# EAGLE library part MICREL (library kennethlimcp)
Micrel Fixed and Adjustable Current Limiting Power Distribution Switches
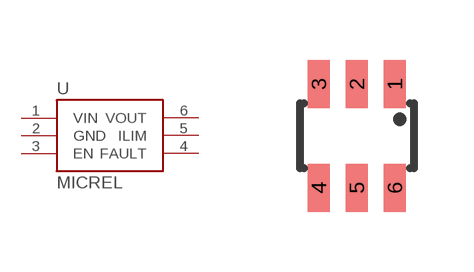
[diagram p1: symbol with the pads of SOT23-6; footprint SOT23-6]

Designator prefix -

## MICRELSOT-CP  [SOT23-6]
1  VIN
2  GND
3  EN
4  FAULT
5  ILIM
6  VOUT

## Footprint SOT23-6 (pad centres in mm)
smd 0.55 x 1.2: 1 0.95,1.3; 2 0,1.3; 3 -0.95,1.3; 4 -0.95,-1.3; 5 0,-1.3; 6 0.95,-1.3